# Altium schematic symbol library UF4 Series - Axial.SchLib: 8 symbols
Pins are listed as number, name and electrical type; pins without a type are passive.

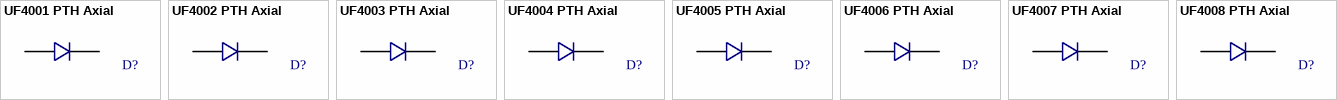
[diagram p0: symbols UF4001 PTH Axial to UF4008 PTH Axial]

## UF4001 PTH Axial
designator D?, comment UF4001 Axial  (value not drawn)
Diode Standard 50V 1A Through Hole DO-204AL (DO-41); Manufacturer 1: ON Semiconductor; Manufacturer 1 PN: UF4001; Current: 1A; Voltage: 50V; ComponentLink1Description: Datasheet; ComponentLink1URL: https://www.fairchildsemi.com/datasheets/UF/UF4001.pdf; Digikey PN: UF4001CT-ND
footprint UF4001 AXIAL (Diode Standard 50V 1A Through Hole DO-204AL (DO-41))
pins: A, K

## UF4002 PTH Axial
designator D?, comment UF4002 Axial  (value not drawn)
Diode Standard 100V 1A Through Hole DO-204AL (DO-41); Manufacturer 1: ON Semiconductor; Manufacturer 1 PN: UF4002; Current: 1A; Voltage: 100V; ComponentLink1Description: Datasheet; ComponentLink1URL: https://www.fairchildsemi.com/datasheets/UF/UF4001.pdf; Digikey PN: UF4002FSCT-ND
footprint UF4002 AXIAL (Diode Standard 100V 1A Through Hole DO-204AL (DO-41))
pins: A, K

## UF4003 PTH Axial
designator D?, comment UF4003 Axial  (value not drawn)
Diode Standard 200V 1A Through Hole DO-204AL (DO-41); Manufacturer 1: ON Semiconductor; Manufacturer 1 PN: UF4003; Current: 1A; Voltage: 200V; ComponentLink1Description: Datasheet; ComponentLink1URL: https://www.fairchildsemi.com/datasheets/UF/UF4001.pdf; Digikey PN: UF4003CT-ND
footprint UF4003 AXIAL (Diode Standard 200V 1A Through Hole DO-204AL (DO-41))
pins: A, K

## UF4004 PTH Axial
designator D?, comment UF4004 Axial  (value not drawn)
Diode Standard 400V 1A Through Hole DO-204AL (DO-41); Manufacturer 1: ON Semiconductor; Manufacturer 1 PN: UF4004; Current: 1A; Voltage: 400V; ComponentLink1Description: Datasheet; ComponentLink1URL: https://www.fairchildsemi.com/datasheets/UF/UF4001.pdf; Digikey PN: UF4004FSCT-ND
footprint UF4004 AXIAL (Diode Standard 400V 1A Through Hole DO-204AL (DO-41))
pins: A, K

## UF4005 PTH Axial
designator D?, comment UF4005 Axial  (value not drawn)
Diode Standard 600V 1A Through Hole DO-204AL (DO-41); Manufacturer 1: ON Semiconductor; Manufacturer 1 PN: UF4005; Current: 1A; Voltage: 600V; ComponentLink1Description: Datasheet; ComponentLink1URL: https://www.fairchildsemi.com/datasheets/UF/UF4001.pdf; Digikey PN: UF4005CT-ND
footprint UF4005 AXIAL (Diode Standard 600V 1A Through Hole DO-204AL (DO-41))
pins: A, K

## UF4006 PTH Axial
designator D?, comment UF4006 Axial  (value not drawn)
Diode Standard 800V 1A Through Hole DO-204AL (DO-41); Manufacturer 1: ON Semiconductor; Manufacturer 1 PN: UF4006; Current: 1A; Voltage: 800V; ComponentLink1Description: Datasheet; ComponentLink1URL: https://www.fairchildsemi.com/datasheets/UF/UF4001.pdf; Digikey PN: UF4006CT-ND
footprint UF4006 AXIAL (Diode Standard 800V 1A Through Hole DO-204AL (DO-41))
pins: A, K

## UF4007 PTH Axial
designator D?, comment UF4007 Axial  (value not drawn)
Diode Standard 1000V 1A Through Hole DO-204AL (DO-41); Manufacturer 1: ON Semiconductor; Manufacturer 1 PN: UF4007; Current: 1A; Voltage: 1000V; ComponentLink1Description: Datasheet; ComponentLink1URL: https://www.fairchildsemi.com/datasheets/UF/UF4001.pdf; Digikey PN: UF4007CT-ND
footprint UF4007 AXIAL (Diode Standard 1000V 1A Through Hole DO-204AL (DO-41))
pins: A, K

## UF4008 PTH Axial
designator D?, comment UF4008 Axial  (value not drawn)
Diode Standard 1000V 1A Through Hole DO-41; Manufacturer 1: Comchip Technology; Manufacturer 1 PN: UF4008-G; ComponentLink1Description: Datasheet; ComponentLink1URL: http://www.onsemi.com/pub/Collateral/1N4001-D.PDF; Current: 1A; Voltage: 1000V; Digikey PN: 641-1745-1-ND
footprint UF4008 AXIAL (Diode Standard 1000V 1A Through Hole DO-204AL (DO-41))
pins: A, K